# EAGLE library part AD8606 (library (custom)-new-components)
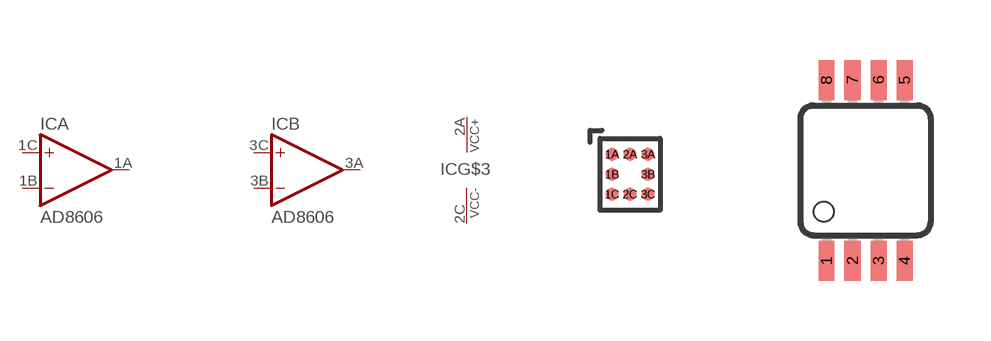
[diagram p6: symbol with the pads of WLCSP-8BALL; footprints WLCSP-8BALL, MSOP08]

Designator prefix IC; gates A=A B=A G$3=PWR

## AD8606  [WLCSP-8BALL]
1A  A:OUT  out
1B  A:IN-  in
1C  A:IN+  in
2A  G$3:VCC+  pwr
2C  G$3:VCC-  pwr
3A  B:OUT  out
3B  B:IN-  in
3C  B:IN+  in

## AD8606RM  [MSOP08]
1  A:OUT  out
2  A:IN-  in
3  A:IN+  in
4  G$3:VCC-  pwr
5  B:IN+  in
6  B:IN-  in
7  B:OUT  out
8  G$3:VCC+  pwr

## Footprint WLCSP-8BALL (pad centres in mm)
smd 0.32 x 0.32: 1A 0.05,1; 1B 0.05,0.5; 1C 0.05,0; 2A 0.5,1; 2C 0.5,0; 3A 0.95,1; 3B 0.95,0.5; 3C 0.95,0

## Footprint MSOP08 (pad centres in mm)
8-Lead micro SO (RM-8) Source: http://www.analog.com/UploadedFiles/Data_Sheets/703465986AD8611_2_0.pdf
smd 0.4 x 1: 1 -0.976,-2.263; 2 -0.326,-2.263; 3 0.324,-2.263; 4 0.974,-2.263; 5 0.974,2.262; 6 0.324,2.262; 7 -0.326,2.262; 8 -0.976,2.262